# Altium footprint library CL_STD1812_H32.PcbLib: 1 footprints
Each footprint in its own frame and in the unit in brackets; x right, y up, seen from the top. Pads: shape width x height; smd on the part's side, far side on the other; paste and mask are expansions set on the pad; w line width, h text height; cw(c..) or ccw(c..) is an arc to the next point about the centre after c.
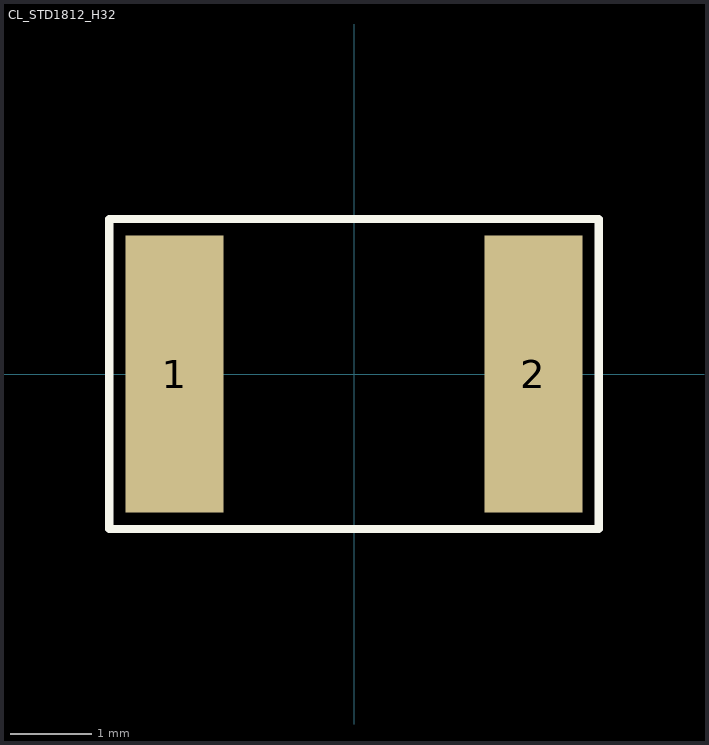
[diagram p0: the footprint, top view; thin cyan lines are the x and y axes]

## CL_STD1812_H32 [mm] "CL_1812"
height 3.2
pads (2):
  rect 1.2x3.4 smd: 1(-2.2,0) 2(2.2,0)
Top Overlay:
  lines w0.1: -3,-1.9 3,-1.9 3,1.9 -3,1.9 -3,-1.9
3D body: height 1.6, standoff 0, extent -2.25,-1.6 2.25,1.6